# EAGLE library part SI4463 (library si4463)
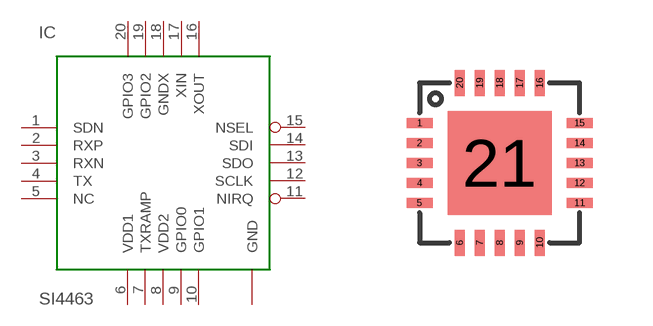
[diagram p0: symbol with the pads of QFN-20; footprint QFN-20]

Designator prefix IC

## SI4463  [QFN-20]
1  SDN  in
2  RXP  in
3  RXN  in
4  TX  out
5  NC  nc
6  VDD1  pwr
7  TXRAMP  out
8  VDD2  pwr
9  GPIO0
10  GPIO1
11  NIRQ  out
12  SCLK  in
13  SDO  out
14  SDI  in
15  NSEL  in
16  XOUT  out
17  XIN  in
18  GNDX  pwr
19  GPIO2
20  GPIO3
21  GND  pwr

## Footprint QFN-20 (pad centres in mm)
smd 0.65 x 0.25: 1 -2,1; 2 -2,0.5; 3 -2,0; 4 -2,-0.5; 5 -2,-1; 11 2,-1; 12 2,-0.5; 13 2,0; 14 2,0.5; 15 2,1
smd 0.25 x 0.65: 6 -1,-2; 7 -0.5,-2; 8 0,-2; 9 0.5,-2; 10 1,-2; 16 1,2; 17 0.5,2; 18 0,2; 19 -0.5,2; 20 -1,2
smd 2.6 x 2.6: 21 0,0